# EAGLE library part NACHTELK_MICROCONTROLLER_ESP_ESP32_WROOM_32E (library NachtElk_MicroController_Espressif-Systems_ESPs)
Nacht Elk. - Espressif Systems ESP Modules Ekrem Turan Fırat Nacht Elk. - Espressif Systems ESP32-WROOM-32E Company: Espressif Systems Model: ESP32-WROOM-32E Microcontroller Type: Xtensa Operating Voltage: 3V up to 3,6V Operating Speed: 80Mhz UP TO 240MHz Memory: 4MB Number of I/O pins: 26 Operating temperature: -40 °C up to +85°C Package: 38-SMD Module Datasheet <https://www.espressif.com/sites/default/files/documentation/esp32-wroom-32e_esp32-wroom-32ue_datasheet_en.pdf> 05.07.2022
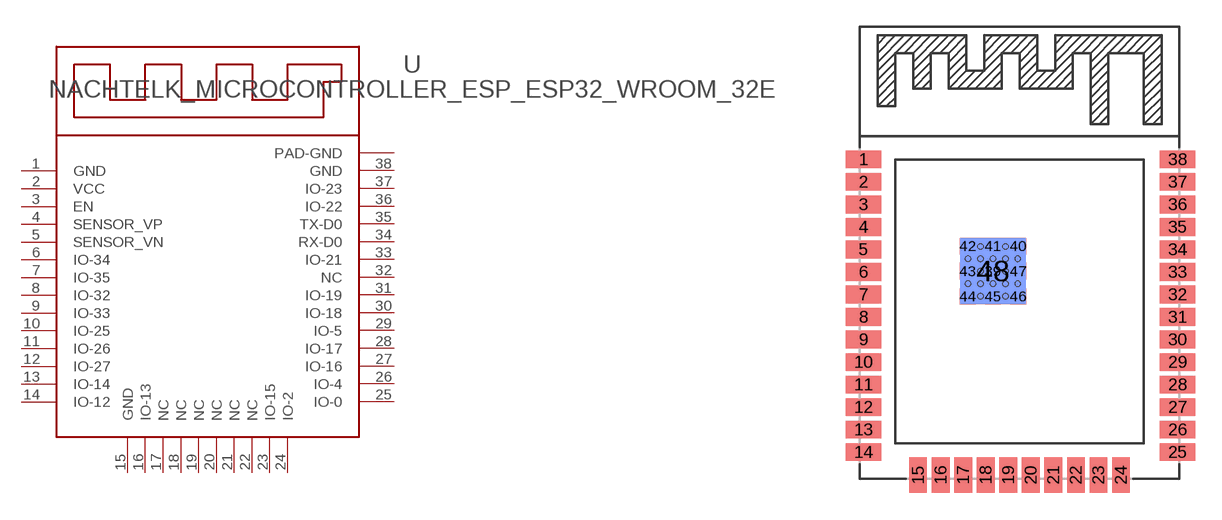
[diagram p0: symbol with the pads of 38-SMD_MODULE; footprint 38-SMD_MODULE]

Designator prefix -

## NACHTELK_MICROCONTROLLER_ESP_ESP32_WROOM_32E (COMPANY: Espressif Systems; DIGI-KEY_NUMBER: 1965-ESP32-WROOM-32E-N4CT-ND; MCROCONTROLLER-TYPE: Xtensa; MEMORY: 4MB; MODEL: ESP32-WROOM-32E; PACKAGE: 38-SMD Module; PART-NUMBER: ESP32-WROOM-32E-N4; SPEED: 80MHz up to 240 MHz; TEMPERATURE: -40°C up to 85°C; VALUE: ESP32-WROOM-32E; VOLTAGE: 3V up to 3,6)  [38-SMD_MODULE]
1  GND  pwr
2  VCC  pwr
3  EN  in
4  SENSOR_VP
5  SENSOR_VN
6  IO-34
7  IO-35
8  IO-32
9  IO-33
10  IO-25
11  IO-26
12  IO-27
13  IO-14
14  IO-12
15  GND  pwr
16  IO-13
17  NC  nc
18  NC  nc
19  NC  nc
20  NC  nc
21  NC  nc
22  NC  nc
23  IO-15
24  IO-2
25  IO-0
26  IO-4
27  IO-16
28  IO-17
29  IO-5
30  IO-18
31  IO-19
32  NC  nc
33  IO-21
34  RX-D0
35  TX-D0
36  IO-22
37  IO-23
38  GND  pwr
39  PAD-GND  pwr
40  PAD-GND  pwr
41  PAD-GND  pwr
42  PAD-GND  pwr
43  PAD-GND  pwr
44  PAD-GND  pwr
45  PAD-GND  pwr
46  PAD-GND  pwr
47  PAD-GND  pwr
48  PAD-GND  pwr

## Footprint 38-SMD_MODULE (pad centres in mm)
Nacht Elk. - Espressif Systems ESP Modules Ekrem Turan Fırat Nacht Elk. - Espressif Systems Package: 38-SMD Module Datasheet <https://www.espressif.com/sites/default/files/documentation/esp32-wroom-32e_esp32-wroom-32ue_datasheet_en.pdf> 05.07.2022
smd 2 x 1: 1 0.2,18.01; 2 0.2,16.74; 3 0.2,15.47; 4 0.2,14.2; 5 0.2,12.93; 6 0.2,11.66; 7 0.2,10.39; 8 0.2,9.12; 9 0.2,7.85; 10 0.2,6.58; 11 0.2,5.31; 12 0.2,4.04; 13 0.2,2.77; 14 0.2,1.5; 25 17.9,1.5; 26 17.9,2.77; 27 17.9,4.04; 28 17.9,5.31; 29 17.9,6.58; 30 17.9,7.85; 31 17.9,9.12; 32 17.9,10.39; 33 17.9,11.66; 34 17.9,12.93; 35 17.9,14.2; 36 17.9,15.47; 37 17.9,16.74; 38 17.9,18.01
smd 1 x 2: 15 3.285,0.2; 16 4.555,0.2; 17 5.825,0.2; 18 7.095,0.2; 19 8.365,0.2; 20 9.635,0.2; 21 10.905,0.2; 22 12.175,0.2; 23 13.445,0.2; 24 14.715,0.2
smd 0.9 x 0.9: 39 7.5,11.71; 40 8.92,13.13; 41 7.5,13.13; 42 6.08,13.13; 43 6.08,11.71; 44 6.08,10.29; 45 7.5,10.29; 46 8.92,10.29; 47 8.92,11.71
smd 3.7 x 3.7 bottom: 48 7.5,11.72
hole 0.3 at 6.1,12.4
hole 0.3 at 6.8,13.1
hole 0.3 at 8.2,13.1
hole 0.3 at 7.5,12.4
hole 0.3 at 8.9,12.4
hole 0.3 at 6.8,11.7
hole 0.3 at 8.2,11.7
hole 0.3 at 7.5,11
hole 0.3 at 6.1,11
hole 0.3 at 6.8,10.3
hole 0.3 at 8.2,10.3
hole 0.3 at 8.9,11
hole 0.3 at 8.2,11
hole 0.3 at 6.8,11
hole 0.3 at 6.8,12.4
hole 0.3 at 8.2,12.4